# EAGLE library part AD7521LN (library Intersil_By_element14_Batch_1)
10-Bit, 12-Bit,Multiplying D-A Converters
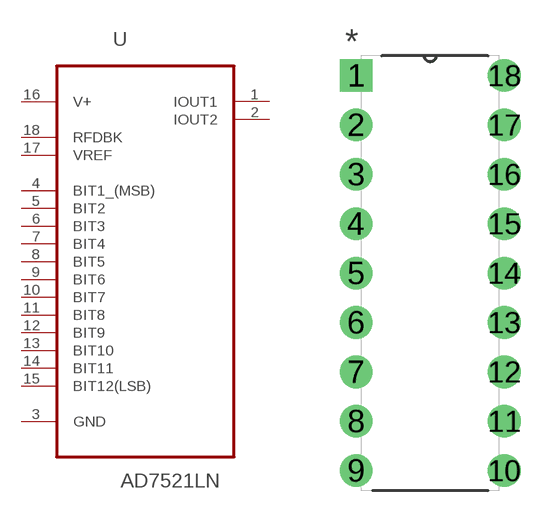
[diagram p0: symbol with the pads of DIP254P762X533-18; footprint DIP254P762X533-18]

Designator prefix U

## AD7521LN (MPN: AD7521LN; OC_FARNELL: 1703253; OC_NEWARK: 05B5331; PACKAGE: PDIP-18; SUPPLIER: INTERSIL)  [DIP254P762X533-18]
1  IOUT1  out
2  IOUT2  out
3  GND  pas
4  BIT1_(MSB)  in
5  BIT2  in
6  BIT3  in
7  BIT4  in
8  BIT5  in
9  BIT6  in
10  BIT7  in
11  BIT8  in
12  BIT9  in
13  BIT10  in
14  BIT11  in
15  BIT12(LSB)  in
16  V+  pwr
17  VREF  pas
18  RFDBK  pas

## Footprint DIP254P762X533-18 (pad centres in mm)
drill 1.118 square: 1 -7.62,20.32
drill 1.118: 2 -7.62,17.78; 3 -7.62,15.24; 4 -7.62,12.7; 5 -7.62,10.16; 6 -7.62,7.62; 7 -7.62,5.08; 8 -7.62,2.54; 9 -7.62,0; 10 0,0; 11 0,2.54; 12 0,5.08; 13 0,7.62; 14 0,10.16; 15 0,12.7; 16 0,15.24; 17 0,17.78; 18 0,20.32